# Altium footprint library MT-CHARHER  V1.0.0.PcbLib: 38 footprints (part 3 of 3)
Each footprint in its own frame and in the unit in brackets; x right, y up, seen from the top. Pads: shape width x height; smd on the part's side, far side on the other; paste and mask are expansions set on the pad; w line width, h text height; cw(c..) or ccw(c..) is an arc to the next point about the centre after c.
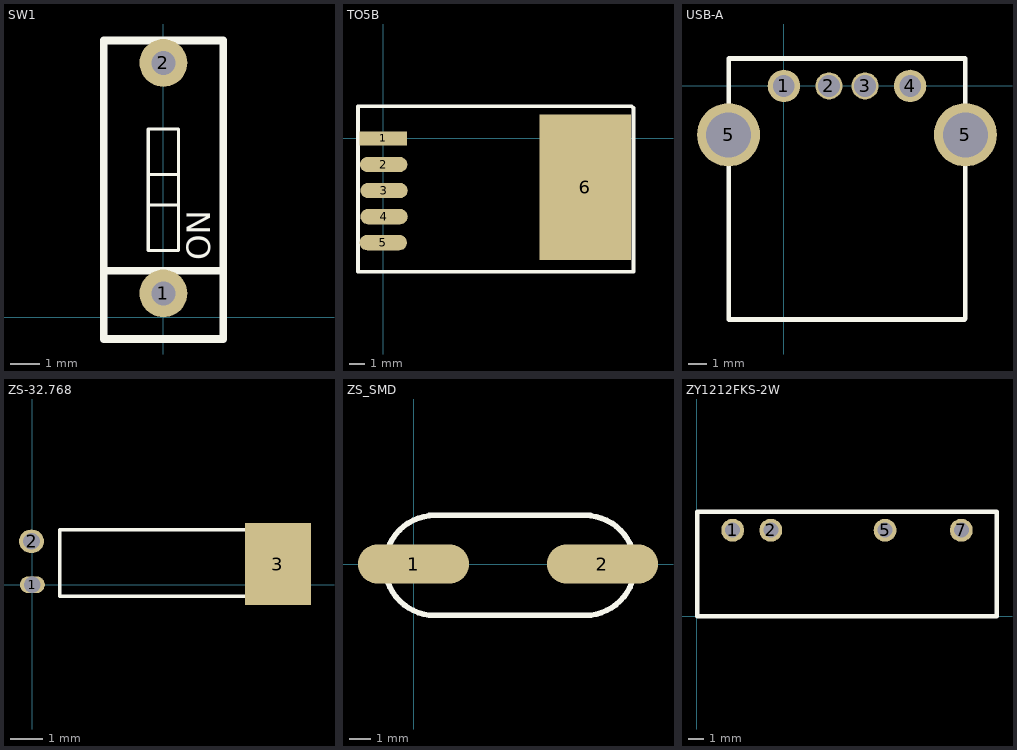
[diagram p2: the footprints below, top view; thin cyan lines are the x and y axes]

## SW1 [mm]
pads (2):
  round 1.6 hole 0.8: 1(0.011,0.793) 2(0.011,8.515)
Top Overlay:
  lines w0.102: -0.497,3.757 0.519,3.757 ; -0.497,4.773 0.519,4.773 ; -0.497,2.233 -0.497,6.297 0.519,6.297 0.519,2.233 -0.497,2.233
  lines w0.254: -1.989,1.547 2.011,1.547 ; -1.989,-0.735 -1.989,9.265 2.011,9.265 2.011,-0.735 -1.989,-0.735
  text "ON" at 1.586,1.902 h0.8

## TO5B [mm]
pads (6):
  rect 3.1x0.9 smd: 1(-0.001,-0.004)
  oval 3.1x1 smd: 2(0.024,-1.706) 3(0.05,-3.407) 4(0.05,-5.109) 5(-0.001,-6.811)
  rect 6x9.5 smd: 6(13.199,-3.204)
Top Overlay:
  lines w0.254: -1.652,-8.716 16.356,-8.716 ; -1.652,-8.696 -1.652,2.104 16.235,2.096 16.335,1.996 16.356,-8.716 ; 16.331,-8.716 16.356,-8.716

## USB-A [mm]
pads (6):
  round 1.8 hole 1.2: 1(0,0) 4(7,0)
  round 1.5 hole 1.2: 2(2.5,0) 3(4.5,0)
  round 3.5 hole 2.5: 5(-3.07,-2.71) 5(10.07,-2.71)
Top Overlay:
  lines w0.254: -3.07,-12.954 10.033,-12.954 10.07,-12.917 10.07,-10.783 10.07,1.524 5.696,1.524 -3.048,1.524 -3.07,1.502 -3.07,0.736 -3.07,-0.105 -3.07,-2.71 -3.07,-10.798 -3.07,-12.954

## ZS-32.768 [mil]
pads (3):
  oval 30x20 / inner oval 40x28 / far side oval 40x28 hole 20: 1(0.21,0.15)
  oval 30x28 / inner oval 40x28 / far side oval 40x28 hole 20: 2(-0.79,52.15)
  rect 78.74x98.42 smd: 3(295,25)
Top Overlay:
  lines w4: 33.21,-13.85 283.21,-13.85 283.21,66.15 33.21,66.15 33.21,-13.85

## ZS_SMD [mil]
pads (2):
  oval 200x70 smd: 1(0,0) 2(340,0)
Top Overlay:
  lines w10: 28.5,-92.5 318.5,-92.5 308.5,-92.5 ccw(c308.5,-2.5) 308.5,87.5 318.5,87.5 28.5,87.5 38.5,87.5 ccw(c38.5,-2.5) 38.5,-92.5 28.5,-92.5

## ZY1212FKS-2W [mm]
pads (4):
  round 1.524 hole 1: 1(2.38,5.75) 2(4.92,5.75) 5(12.54,5.75) 7(17.62,5.75)
Top Overlay:
  lines w0.3: 0,0 0,7 20,7 20,0 0,0